# Altium footprint library resistorSMD.PcbLib: 4 footprints
Each footprint in its own frame and in the unit in brackets; x right, y up, seen from the top. Pads: shape width x height; smd on the part's side, far side on the other; paste and mask are expansions set on the pad; w line width, h text height; cw(c..) or ccw(c..) is an arc to the next point about the centre after c.
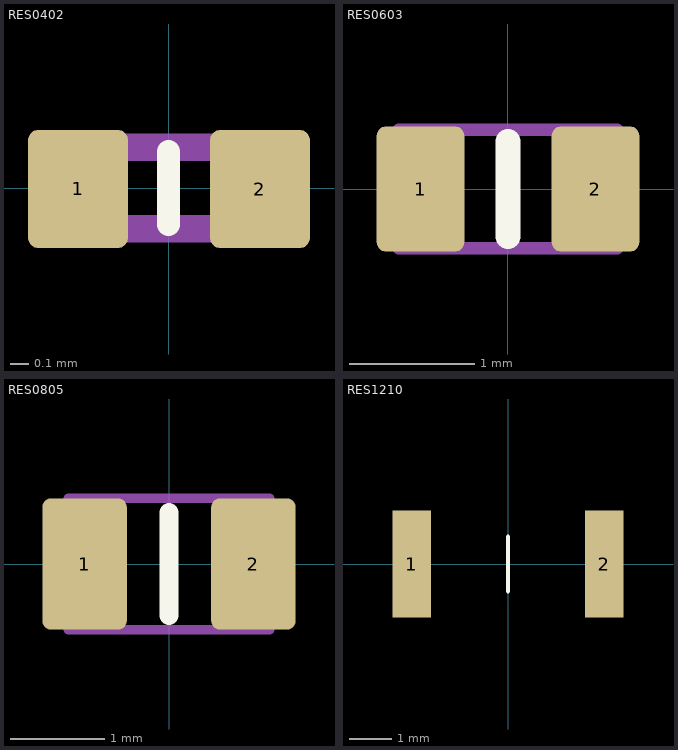
[diagram p0: the footprints below, top view; thin cyan lines are the x and y axes]

## RES0402 [mm]
pads (2):
  rrect20% 0.55x0.65 smd: 1(-0.498,-0.005) 2(0.503,-0.005)
Top Overlay:
  lines w0.127: 0,-0.2 0,0.2
Mechanical 13:
  region: -0.254,-0.305 -0.555,-0.305 -0.555,0.295 -0.254,0.295
  region: 0.559,-0.305 0.259,-0.305 0.259,0.295 0.559,0.295
  lines w0.152: -0.245,-0.224 0.245,-0.224 ; -0.245,0.224 0.245,0.224
3D body "WR04X1000FTL--3DModel-STEP-510211.STEP": height 0.4, standoff 0, extent -0.5,-0.25 0.5,0.25

## RES0603 [mm] "SMD Resistor 0603"
height 0.55
pads (2):
  rrect20% 0.7x1 smd: 1(-0.7,0) 2(0.7,0)
Top Overlay:
  lines w0.2: 0,-0.381 0,0.381
Mechanical 13:
  lines w0.1: -0.875,-0.475 0.875,-0.475 0.875,0.475 -0.875,0.475 -0.875,-0.475
3D body "WR06X1000FTL.STEP": height 0.6, standoff 0, extent -0.8,-0.4 0.8,0.4

## RES0805 [mm] "SMD Resistor 0805"
height 0.7
pads (2):
  rrect20% 0.9x1.4 smd: 1(-0.9,0) 2(0.9,0)
Top Overlay:
  lines w0.2: 0,-0.55 0,0.55
Mechanical 13:
  lines w0.1: -1.075,-0.7 -1.075,0.7 1.075,0.7 1.075,-0.7 -1.075,-0.7
3D body "WR08X1000FTL.STEP": height 0.65, standoff 0, extent -1,-0.625 1,0.625

## RES1210 [mm] "SMD Resistor 1210 - Metric 3225"
height 0.55
pads (2):
  rect 0.9x2.5 smd: 1(-2.25,0) 2(2.25,0)
Top Overlay:
  lines w0.1: 0,-0.635 0,0.635
3D body: height 0.55, standoff 0, extent -2.159,-1.016 2.159,1.016